# Altium schematic symbol library NHD-0208BZ-FL-YBW.SchLib: 1 symbol
Pins are listed as number, name and electrical type; pins without a type are passive.

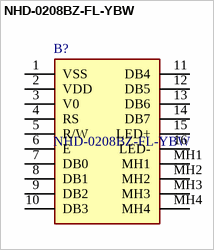
[diagram p0: symbol NHD-0208BZ-FL-YBW]

## NHD-0208BZ-FL-YBW
designator B?
LCD Character Display Modules & Accessories STN- Y/G Transfl 58.0 x 32.0; Manufacturer_Name: Newhaven Display; Geometry.Height: 13.5mm; Mouser Part Number: 763-0208BZ-FL-YBW; Mouser Price/Stock: https://www.mouser.co.uk/ProductDetail/Newhaven-Display/NHD-0208BZ-FL-YBW?qs=3vk7fz9CmNzi22V9hm7pfQ%3D%3D; Manufacturer_Part_Number: NHD-0208BZ-FL-YBW; Datasheet Link: https://www.newhavendisplay.com/specs/NHD-0208BZ-FL-YBW.pdf
footprint NHD0208BZFLYBW
pins: 1 VSS, 2 VDD, 3 V0, 4 RS, 5 R/W, 6 E, 7 DB0, 8 DB1, 9 DB2, 10 DB3, 11 DB4, 12 DB5, 13 DB6, 14 DB7, 15 LED+, 16 LED-, MH1, MH2, MH3, MH4